# EAGLE library part STM32FXXXR_V (library st)
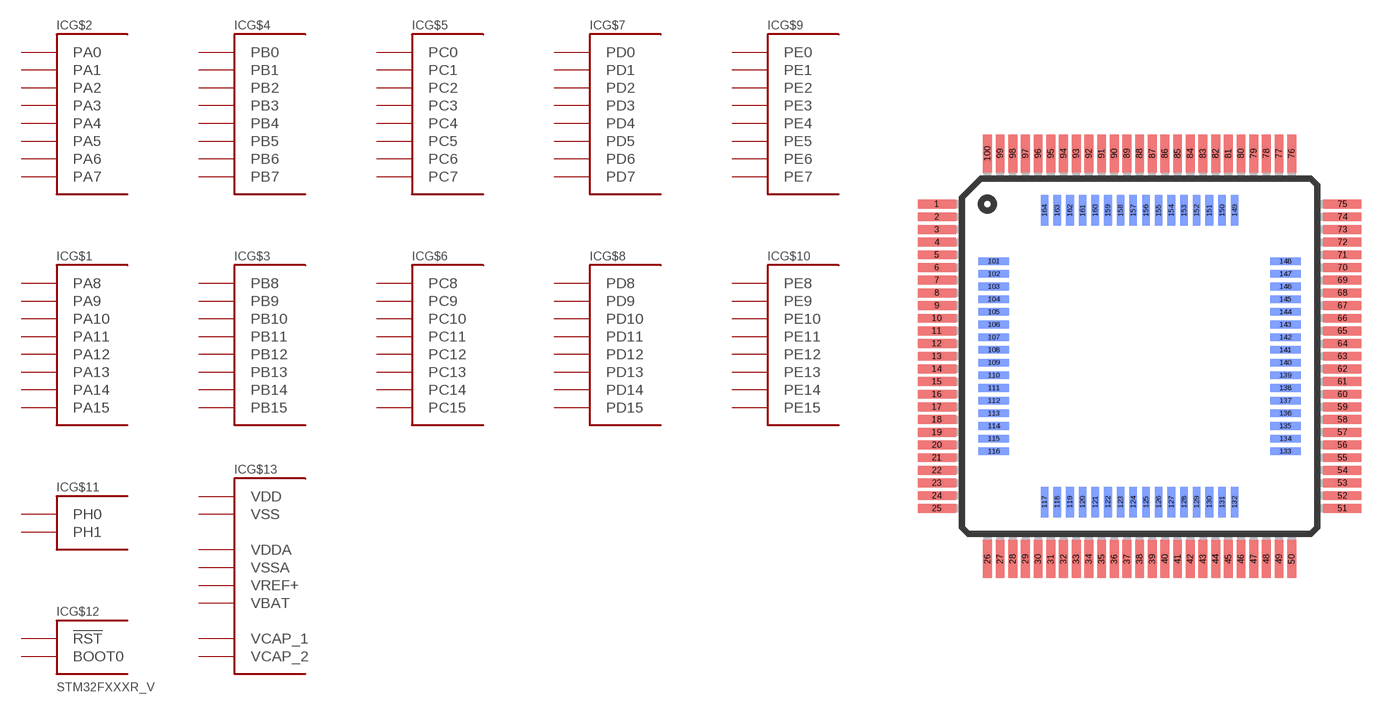
[diagram p4: symbol with the pads of LQFP100_LQFP64; footprint LQFP100_LQFP64]

Designator prefix IC; gates G$1=PORT_A_H G$2=PORT_A_L G$3=PORT_B_H G$4=PORT_B_L G$5=PORT_C_L G$6=PORT_C_H G$7=PORT_D_L G$8=PORT_D_H G$9=PORT_E_L G$10=PORT_E_H G$11=PORT_H_2 G$12=BOOT_RST G$13=POWER_100

## STM32FXXXR_VR_V  [LQFP100_LQFP64]
1  G$9:PE2
2  G$9:PE3
3  G$9:PE4
4  G$9:PE5
5  G$9:PE6
6  G$13:VBAT  pas
7  G$6:PC13
8  G$6:PC14
9  G$6:PC15
10  G$13:VSS  pas
11  G$13:VDD  pas
12  G$11:PH0
13  G$11:PH1
14  G$12:!RST  in
15  G$5:PC0
16  G$5:PC1
17  G$5:PC2
18  G$5:PC3
19  G$13:VDD  pas
20  G$13:VSSA  pas
21  G$13:VREF+  pas
22  G$13:VDDA  pas
23  G$2:PA0
24  G$2:PA1
25  G$2:PA2
26  G$2:PA3
27  G$13:VSS  pas
28  G$13:VDD  pas
29  G$2:PA4
30  G$2:PA5
31  G$2:PA6
32  G$2:PA7
33  G$5:PC4
34  G$5:PC5
35  G$4:PB0
36  G$4:PB1
37  G$4:PB2
38  G$9:PE7
39  G$10:PE8
40  G$10:PE9
41  G$10:PE10
42  G$10:PE11
43  G$10:PE12
44  G$10:PE13
45  G$10:PE14
46  G$10:PE15
47  G$3:PB10
48  G$3:PB11
49  G$13:VCAP_1  pas
50  G$13:VDD  pas
51  G$3:PB12
52  G$3:PB13
53  G$3:PB14
54  G$3:PB15
55  G$8:PD8
56  G$8:PD9
57  G$8:PD10
58  G$8:PD11
59  G$8:PD12
60  G$8:PD13
61  G$8:PD14
62  G$8:PD15
63  G$5:PC6
64  G$5:PC7
65  G$6:PC8
66  G$6:PC9
67  G$1:PA8
68  G$1:PA9
69  G$1:PA10
70  G$1:PA11
71  G$1:PA12
72  G$1:PA13
73  G$13:VCAP_2  pas
74  G$13:VSS  pas
75  G$13:VDD  pas
76  G$1:PA14
77  G$1:PA15
78  G$6:PC10
79  G$6:PC11
80  G$6:PC12
81  G$7:PD0
82  G$7:PD1
83  G$7:PD2
84  G$7:PD3
85  G$7:PD4
86  G$7:PD5
87  G$7:PD6
88  G$7:PD7
89  G$4:PB3
90  G$4:PB4
91  G$4:PB5
92  G$4:PB6
93  G$4:PB7
94  G$12:BOOT0  in
95  G$3:PB8
96  G$3:PB9
97  G$9:PE0
98  G$9:PE1
99  G$13:VSS  pas
100  G$13:VDD  pas
101  G$13:VBAT  pas
102  G$6:PC13
103  G$6:PC14
104  G$6:PC15
105  G$11:PH0
106  G$11:PH1
107  G$12:!RST  in
108  G$5:PC0
109  G$5:PC1
110  G$5:PC2
111  G$5:PC3
112  G$13:VSSA  pas
113  G$13:VDDA  pas
114  G$2:PA0
115  G$2:PA1
116  G$2:PA2
117  G$2:PA3
118  G$13:VSS  pas
119  G$13:VDD  pas
120  G$2:PA4
121  G$2:PA5
122  G$2:PA6
123  G$2:PA7
124  G$5:PC4
125  G$5:PC5
126  G$4:PB0
127  G$4:PB1
128  G$4:PB2
129  G$3:PB10
130  G$3:PB11
131  G$13:VCAP_1  pas
132  G$13:VDD  pas
133  G$3:PB12
134  G$3:PB13
135  G$3:PB14
136  G$3:PB15
137  G$5:PC6
138  G$5:PC7
139  G$6:PC8
140  G$6:PC9
141  G$1:PA8
142  G$1:PA9
143  G$1:PA10
144  G$1:PA11
145  G$1:PA12
146  G$1:PA13
147  G$13:VCAP_2  pas
148  G$13:VDD  pas
149  G$1:PA14
150  G$1:PA15
151  G$6:PC10
152  G$6:PC11
153  G$6:PC12
154  G$7:PD2
155  G$4:PB3
156  G$4:PB4
157  G$4:PB5
158  G$4:PB6
159  G$4:PB7
160  G$12:BOOT0  in
161  G$3:PB8
162  G$3:PB9
163  G$13:VSS  pas
164  G$13:VDD  pas

## Footprint LQFP100_LQFP64 (pad centres in mm)
smd 1.5 x 0.35: 1 -8,6; 2 -8,5.5; 3 -8,5; 4 -8,4.5; 5 -8,4; 6 -8,3.5; 7 -8,3; 8 -8,2.5; 9 -8,2; 10 -8,1.5; 11 -8,1; 12 -8,0.5; 13 -8,0; 14 -8,-0.5; 15 -8,-1; 16 -8,-1.5; 17 -8,-2; 18 -8,-2.5; 19 -8,-3; 20 -8,-3.5; 21 -8,-4; 22 -8,-4.5; 23 -8,-5; 24 -8,-5.5; 25 -8,-6; 51 8,-6; 52 8,-5.5; 53 8,-5; 54 8,-4.5; 55 8,-4; 56 8,-3.5; 57 8,-3; 58 8,-2.5; 59 8,-2; 60 8,-1.5; 61 8,-1; 62 8,-0.5; 63 8,0; 64 8,0.5; 65 8,1; 66 8,1.5; 67 8,2; 68 8,2.5; 69 8,3; 70 8,3.5; 71 8,4; 72 8,4.5; 73 8,5; 74 8,5.5; 75 8,6
smd 0.35 x 1.5: 26 -6,-8; 27 -5.5,-8; 28 -5,-8; 29 -4.5,-8; 30 -4,-8; 31 -3.5,-8; 32 -3,-8; 33 -2.5,-8; 34 -2,-8; 35 -1.5,-8; 36 -1,-8; 37 -0.5,-8; 38 0,-8; 39 0.5,-8; 40 1,-8; 41 1.5,-8; 42 2,-8; 43 2.5,-8; 44 3,-8; 45 3.5,-8; 46 4,-8; 47 4.5,-8; 48 5,-8; 49 5.5,-8; 50 6,-8; 76 6,8; 77 5.5,8; 78 5,8; 79 4.5,8; 80 4,8; 81 3.5,8; 82 3,8; 83 2.5,8; 84 2,8; 85 1.5,8; 86 1,8; 87 0.5,8; 88 0,8; 89 -0.5,8; 90 -1,8; 91 -1.5,8; 92 -2,8; 93 -2.5,8; 94 -3,8; 95 -3.5,8; 96 -4,8; 97 -4.5,8; 98 -5,8; 99 -5.5,8; 100 -6,8
smd 1.2 x 0.3 bottom: 101 -5.75,3.75; 102 -5.75,3.25; 103 -5.75,2.75; 104 -5.75,2.25; 105 -5.75,1.75; 106 -5.75,1.25; 107 -5.75,0.75; 108 -5.75,0.25; 109 -5.75,-0.25; 110 -5.75,-0.75; 111 -5.75,-1.25; 112 -5.75,-1.75; 113 -5.75,-2.25; 114 -5.75,-2.75; 115 -5.75,-3.25; 116 -5.75,-3.75; 133 5.75,-3.75; 134 5.75,-3.25; 135 5.75,-2.75; 136 5.75,-2.25; 137 5.75,-1.75; 138 5.75,-1.25; 139 5.75,-0.75; 140 5.75,-0.25; 141 5.75,0.25; 142 5.75,0.75; 143 5.75,1.25; 144 5.75,1.75; 145 5.75,2.25; 146 5.75,2.75; 147 5.75,3.25; 148 5.75,3.75
smd 0.3 x 1.2 bottom: 117 -3.75,-5.75; 118 -3.25,-5.75; 119 -2.75,-5.75; 120 -2.25,-5.75; 121 -1.75,-5.75; 122 -1.25,-5.75; 123 -0.75,-5.75; 124 -0.25,-5.75; 125 0.25,-5.75; 126 0.75,-5.75; 127 1.25,-5.75; 128 1.75,-5.75; 129 2.25,-5.75; 130 2.75,-5.75; 131 3.25,-5.75; 132 3.75,-5.75; 149 3.75,5.75; 150 3.25,5.75; 151 2.75,5.75; 152 2.25,5.75; 153 1.75,5.75; 154 1.25,5.75; 155 0.75,5.75; 156 0.25,5.75; 157 -0.25,5.75; 158 -0.75,5.75; 159 -1.25,5.75; 160 -1.75,5.75; 161 -2.25,5.75; 162 -2.75,5.75; 163 -3.25,5.75; 164 -3.75,5.75